# EAGLE library part OT+_SMT (library SHC)
Open Tracker+ SMT - Argent Data Systems
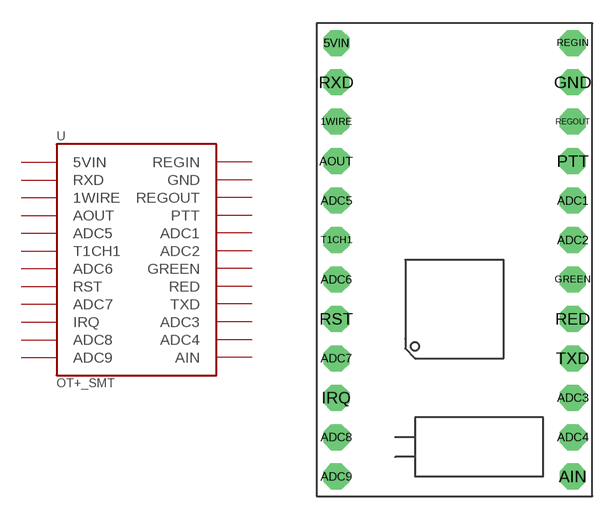
[diagram p44: symbol with the pads of OT+_SMT; footprint OT+_SMT]

Designator prefix -

## OT+_SMT  [OT+_SMT]
1WIRE  1WIRE
5VIN  5VIN
ADC1  ADC1
ADC2  ADC2
ADC3  ADC3
ADC4  ADC4
ADC5  ADC5
ADC6  ADC6
ADC7  ADC7
ADC8  ADC8
ADC9  ADC9
AIN  AIN
AOUT  AOUT
GND  GND
GREEN  GREEN
IRQ  IRQ
PTT  PTT
RED  RED
REGIN  REGIN
REGOUT  REGOUT
RST  RST
RXD  RXD
T1CH1  T1CH1
TXD  TXD

## Footprint OT+_SMT (pad centres in mm)
drill 0.8 pad 1.676 octagon: 1WIRE -7.62,8.89; 5VIN -7.62,13.97; ADC1 7.62,3.81; ADC2 7.62,1.27; ADC3 7.62,-8.89; ADC4 7.62,-11.43; ADC5 -7.62,3.81; ADC6 -7.62,-1.27; ADC7 -7.62,-6.35; ADC8 -7.62,-11.43; ADC9 -7.62,-13.97; AIN 7.62,-13.97; AOUT -7.62,6.35; GND 7.62,11.43; GREEN 7.62,-1.27; IRQ -7.62,-8.89; PTT 7.62,6.35; RED 7.62,-3.81; REGIN 7.62,13.97; REGOUT 7.62,8.89; RST -7.62,-3.81; RXD -7.62,11.43; T1CH1 -7.62,1.27; TXD 7.62,-6.35